# EAGLE library part MAX1169 (library X893)
58.6ksps, 16-Bit, 2-Wire Serial ADC in a 14-Pin TSSOP http://www.maximintegrated.com/datasheet/index.mvp/id/3659
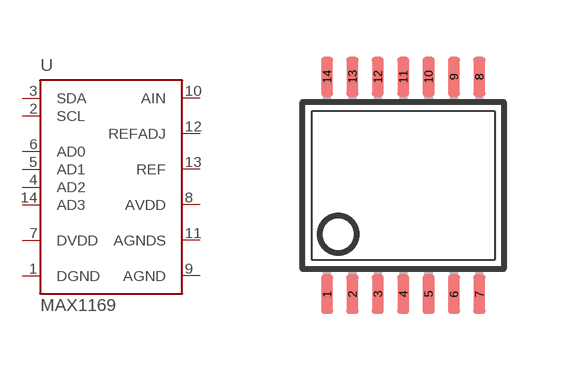
[diagram p193: symbol with the pads of TSSOP14; footprint TSSOP14]

Designator prefix U

## MAX1169  [TSSOP14]
1  DGND  pas
2  SCL  pas
3  SDA  pas
4  AD2  pas
5  AD1  pas
6  AD0  pas
7  DVDD  pas
8  AVDD  pas
9  AGND  pas
10  AIN  pas
11  AGNDS  pas
12  REFADJ  pas
13  REF  pas
14  AD3  pas

## Footprint TSSOP14 (pad centres in mm)
Thin Shrink Small Outline Plastic 14
smd 0.305 x 0.991: 1 -1.905,-2.718; 2 -1.27,-2.718; 3 -0.635,-2.718; 4 0,-2.718; 5 0.635,-2.718; 6 1.27,-2.718; 7 1.905,-2.718; 8 1.905,2.718; 9 1.27,2.718; 10 0.635,2.718; 11 0,2.718; 12 -0.635,2.718; 13 -1.27,2.718; 14 -1.905,2.718